# Altium schematic symbol library 74S20.SchLib: 1 symbol
Pins are listed as number, name and electrical type; pins without a type are passive.

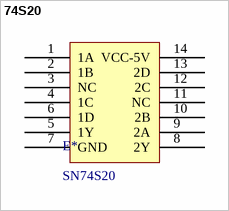
[diagram p0: symbol 74S20]

## 74S20
designator E*, comment SN74S20
Supplier 1: Mouser; Supplier Part Number 1: 595-SN74S20N
footprint DIP14
pins: 1 1A, 2 1B, 3 NC, 4 1C, 5 1Y, 6 1D, 7 GND, 8 2Y, 9 2A, 10 2B, 11 NC, 12 2C, 13 2D, 14 VCC-5V